# EAGLE library part IR2D07 (library sharp)
16.bit LED panel driver Source: http://document.sharpsma.com/files/IR2D07.pdf
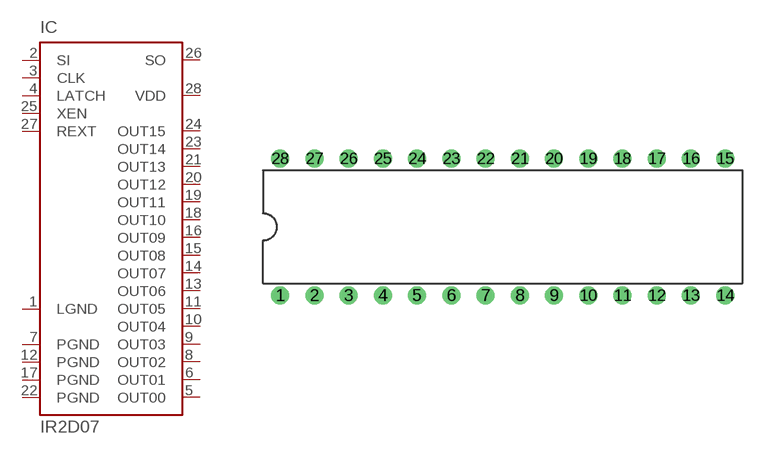
[diagram p3: symbol with the pads of DIL28-4; footprint DIL28-4]

Designator prefix IC

## IR2D07 (OC_FARNELL: unknown; OC_NEWARK: unknown)  [DIL28-4]
1  LGND  pwr
2  SI  in
3  CLK  in
4  LATCH  in
5  OUT00  out
6  OUT01  out
7  PGND  pwr
8  OUT02  out
9  OUT03  out
10  OUT04  out
11  OUT05  out
12  PGND  pwr
13  OUT06  out
14  OUT07  out
15  OUT08  out
16  OUT09  out
17  PGND  pwr
18  OUT10  out
19  OUT11  out
20  OUT12  out
21  OUT13  out
22  PGND  pwr
23  OUT14  out
24  OUT15  out
25  XEN  in
26  SO  out
27  REXT  in
28  VDD  pwr

## Footprint DIL28-4 (pad centres in mm)
Dual In Line Package
drill 0.813: 1 -16.51,-5.08; 2 -13.97,-5.08; 3 -11.43,-5.08; 4 -8.89,-5.08; 5 -6.35,-5.08; 6 -3.81,-5.08; 7 -1.27,-5.08; 8 1.27,-5.08; 9 3.81,-5.08; 10 6.35,-5.08; 11 8.89,-5.08; 12 11.43,-5.08; 13 13.97,-5.08; 14 16.51,-5.08; 15 16.51,5.08; 16 13.97,5.08; 17 11.43,5.08; 18 8.89,5.08; 19 6.35,5.08; 20 3.81,5.08; 21 1.27,5.08; 22 -1.27,5.08; 23 -3.81,5.08; 24 -6.35,5.08; 25 -8.89,5.08; 26 -11.43,5.08; 27 -13.97,5.08; 28 -16.51,5.08